# Altium schematic symbol library Breakout_Module.SCHLIB: 2 symbols
Pins are listed as number, name and electrical type; pins without a type are passive.

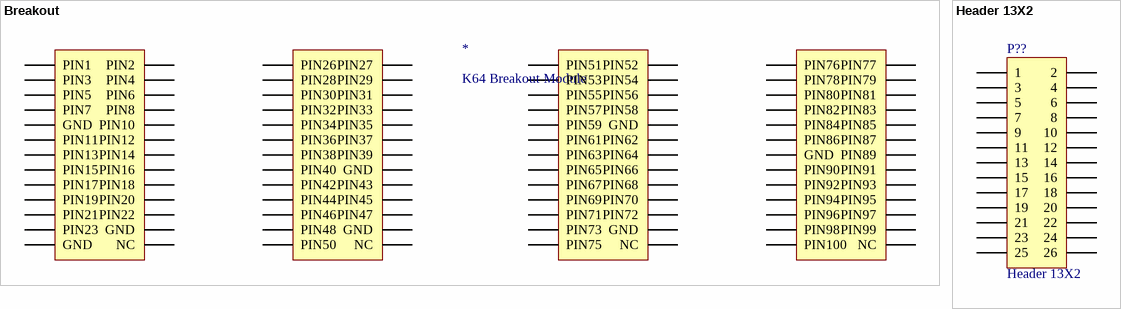
[diagram p0: symbols Breakout to Header 13X2]

## Breakout
designator *, comment K64 Breakout Module
footprint Breakout
pins: 1 PIN1, 2 PIN2, 3 PIN3, 4 PIN4, 5 PIN5, 6 PIN6, 7 PIN7, 8 PIN8, 9 GND, 10 PIN10, 11 PIN11, 12 PIN12, 13 PIN13, 14 PIN14, 15 PIN15, 16 PIN16, 17 PIN17, 18 PIN18, 19 PIN19, 20 PIN20, 21 PIN21, 22 PIN22, 23 PIN23, 24 GND, 25 GND, 26 NC, 27 PIN26, 28 PIN27, 29 PIN28, 30 PIN29, 31 PIN30, 32 PIN31, 33 PIN32, 34 PIN33, 35 PIN34, 36 PIN35, 37 PIN36, 38 PIN37, 39 PIN38, 40 PIN39, 41 PIN40, 42 GND, 43 PIN42, 44 PIN43, 45 PIN44, 46 PIN45, 47 PIN46, 48 PIN47, 49 PIN48, 50 GND, 51 PIN50, 52 NC, 53 PIN51, 54 PIN52, 55 PIN53, 56 PIN54, 57 PIN55, 58 PIN56, 59 PIN57, 60 PIN58, 61 PIN59, 62 GND, 63 PIN61, 64 PIN62, 65 PIN63, 66 PIN64, 67 PIN65, 68 PIN66, 69 PIN67, 70 PIN68, 71 PIN69, 72 PIN70, 73 PIN71, 74 PIN72, 75 PIN73, 76 GND, 77 PIN75, 78 NC, 79 PIN76, 80 PIN77, 81 PIN78, 82 PIN79, 83 PIN80, 84 PIN81, 85 PIN82, 86 PIN83, 87 PIN84, 88 PIN85, 89 PIN86, 90 PIN87, 91 GND, 92 PIN89, 93 PIN90, 94 PIN91, 95 PIN92, 96 PIN93, 97 PIN94, 98 PIN95, 99 PIN96, 100 PIN97, 101 PIN98, 102 PIN99, 103 PIN100, 104 NC

## Header 13X2
designator P??
Header, 13-Pin, Dual row; LatestRevisionDate: 17-Jul-2002; LatestRevisionNote: Re-released for DXP Platform.; Publisher: Altium Limited
footprint HDR2X13 (Connector; Header; 13x2 Position)
signal-integrity model Connector
pins: 1, 2, 3, 4, 5, 6, 7, 8, 9, 10, 11, 12, 13, 14, 15, 16, 17, 18, 19, 20, 21, 22, 23, 24, 25, 26